# Altium schematic symbol library MSP432P4011.SchLib: 1 symbol
Pins are listed as number, name and electrical type; pins without a type are passive.

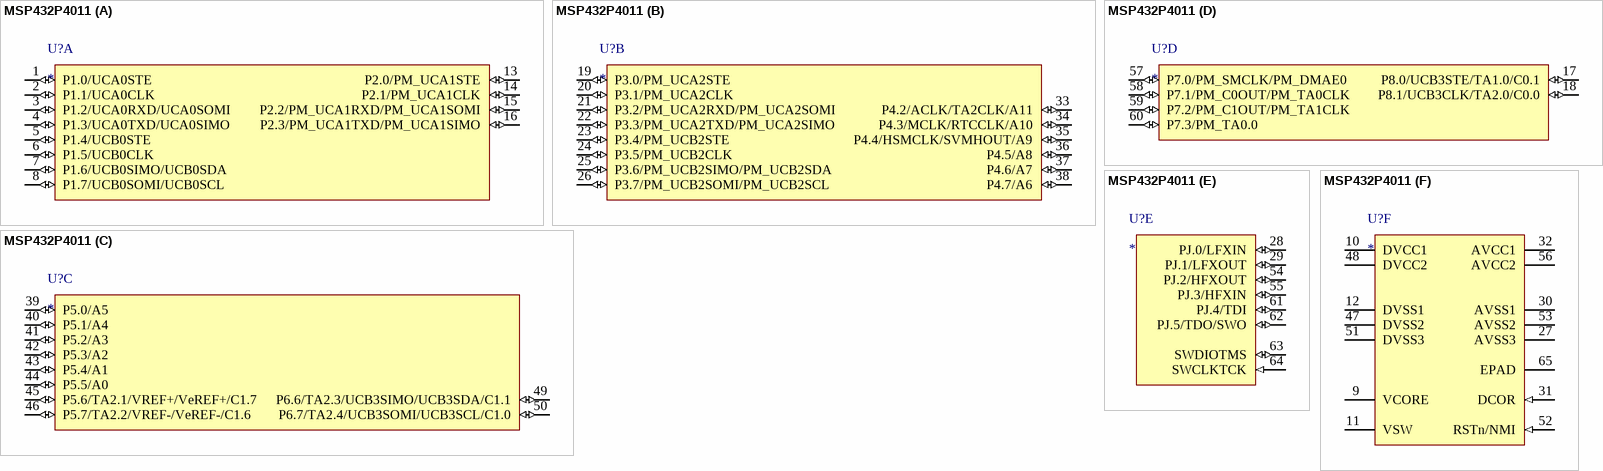
[diagram p0: symbol MSP432P4011]

## MSP432P4011
designator U?
SimpleLink™ Mixed-Signal Microcontrollers
footprint MSP432P4011 (QFN, 64-Leads, Body 9.00x9.00mm, Pitch 0.50mm, Thermal Pad 5.00x5.00mm, IPC Medium Density)
part A pins: 1 P1.0/UCA0STE (io), 2 P1.1/UCA0CLK (io), 3 P1.2/UCA0RXD/UCA0SOMI (io), 4 P1.3/UCA0TXD/UCA0SIMO (io), 5 P1.4/UCB0STE (io), 6 P1.5/UCB0CLK (io), 7 P1.6/UCB0SIMO/UCB0SDA (io), 8 P1.7/UCB0SOMI/UCB0SCL (io), 13 P2.0/PM_UCA1STE (io), 14 P2.1/PM_UCA1CLK (io), 15 P2.2/PM_UCA1RXD/PM_UCA1SOMI (io), 16 P2.3/PM_UCA1TXD/PM_UCA1SIMO (io)
part B pins: 19 P3.0/PM_UCA2STE (io), 20 P3.1/PM_UCA2CLK (io), 21 P3.2/PM_UCA2RXD/PM_UCA2SOMI (io), 22 P3.3/PM_UCA2TXD/PM_UCA2SIMO (io), 23 P3.4/PM_UCB2STE (io), 24 P3.5/PM_UCB2CLK (io), 25 P3.6/PM_UCB2SIMO/PM_UCB2SDA (io), 26 P3.7/PM_UCB2SOMI/PM_UCB2SCL (io), 33 P4.2/ACLK/TA2CLK/A11 (io), 34 P4.3/MCLK/RTCCLK/A10 (io), 35 P4.4/HSMCLK/SVMHOUT/A9 (io), 36 P4.5/A8 (io), 37 P4.6/A7 (io), 38 P4.7/A6 (io)
part C pins: 39 P5.0/A5 (io), 40 P5.1/A4 (io), 41 P5.2/A3 (io), 42 P5.3/A2 (io), 43 P5.4/A1 (io), 44 P5.5/A0 (io), 45 P5.6/TA2.1/VREF+/VeREF+/C1.7 (io), 46 P5.7/TA2.2/VREF-/VeREF-/C1.6 (io), 49 P6.6/TA2.3/UCB3SIMO/UCB3SDA/C1.1 (io), 50 P6.7/TA2.4/UCB3SOMI/UCB3SCL/C1.0 (io)
part D pins: 17 P8.0/UCB3STE/TA1.0/C0.1 (io), 18 P8.1/UCB3CLK/TA2.0/C0.0 (io), 57 P7.0/PM_SMCLK/PM_DMAE0 (io), 58 P7.1/PM_C0OUT/PM_TA0CLK (io), 59 P7.2/PM_C1OUT/PM_TA1CLK (io), 60 P7.3/PM_TA0.0 (io)
part E pins: 28 PJ.0/LFXIN (io), 29 PJ.1/LFXOUT (io), 54 PJ.2/HFXOUT (io), 55 PJ.3/HFXIN (io), 61 PJ.4/TDI (io), 62 PJ.5/TDO/SWO (io), 63 SWDIOTMS (io), 64 SWCLKTCK (in)
part F pins: 9 VCORE (power), 10 DVCC1 (power), 11 VSW (power), 12 DVSS1 (power), 27 AVSS3 (power), 30 AVSS1 (power), 31 DCOR (in), 32 AVCC1 (power), 47 DVSS2 (power), 48 DVCC2 (power), 51 DVSS3 (power), 52 RSTn/NMI (in), 53 AVSS2 (power), 56 AVCC2 (power), 65 EPAD (power)